# Altium footprint library DIP2_2.PcbLib: 1 footprints
Each footprint in its own frame and in the unit in brackets; x right, y up, seen from the top. Pads: shape width x height; smd on the part's side, far side on the other; paste and mask are expansions set on the pad; w line width, h text height; cw(c..) or ccw(c..) is an arc to the next point about the centre after c.
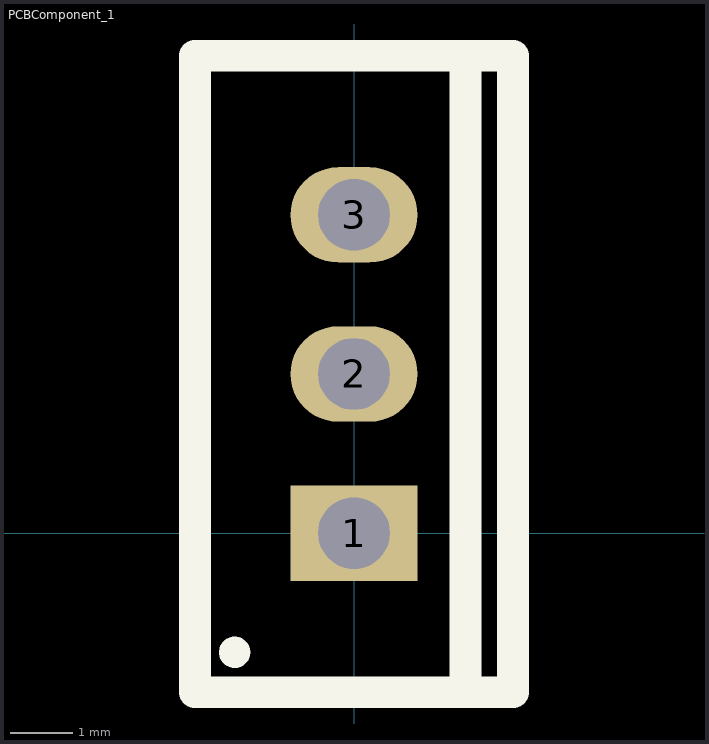
[diagram p0: the footprint, top view; thin cyan lines are the x and y axes]

## PCBComponent_1 [mil]
pads (3):
  rect 80x60 hole 45: 1(0,0)
  oval 80x60 hole 45: 2(0,100) 3(0,200)
Top Overlay:
  circle w9.84: c-75,-74.92 r4.92
  lines w20: 70,-100 70,300 ; -100,-100 100,-100 100,300 -100,300 -100,-100